# Altium schematic symbol library jl_lib.SchLib: 19 symbols
Pins are listed as number, name and electrical type; pins without a type are passive.

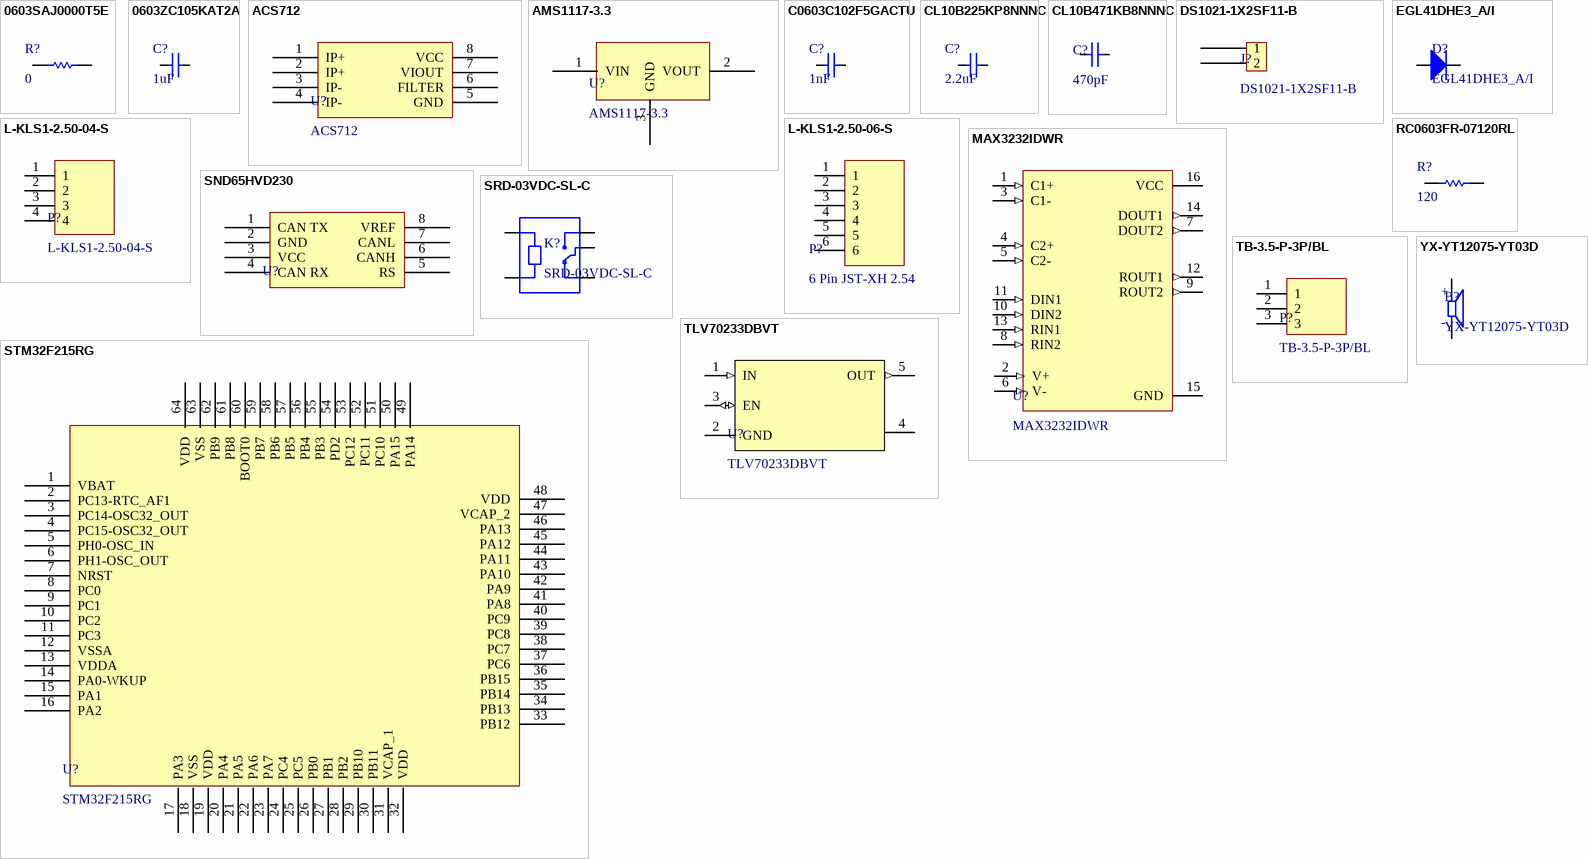
[diagram p0: symbols 0603SAJ0000T5E to YX-YT12075-YT03D]

## 0603SAJ0000T5E
designator R?, comment 0
Manufacturer: ROYALOHM; Tolerance: %5; Man Code: 0603SAJ0000T5E; Voltage: 75V; Component Type: Chip Resistor; Value: 0; Footprint: 0603
footprint RES-0603
pins: 1, 2

## 0603ZC105KAT2A
designator C?, comment 1uF
Manufacturer: AVX; Tolerance: %10; Man Code: 0603ZC105KAT2A; Voltage: 10V; Component Type: Ceramic Capacitor; Value: 1uF; Footprint: 0603
footprint CAP-0603
pins: 1, 2

## ACS712
designator U?
Manufacturer: Allegro; Supply Voltage: 5V; Component Type: Hall Effect Sensor; Footprint: SOIC-8; Man Code: ACS712
footprint SOIC-8
pins: 1 IP+, 2 IP+, 3 IP-, 4 IP-, 5 GND, 6 FILTER, 7 VIOUT, 8 VCC

## AMS1117-3.3
designator U?
Manufacturer: Monolithic; Componenet Type: Regulator; Output Voltage: 3.3V; Output Current: 1A; Footprint: SOT-223; Man Code: AMS1117-3.3
footprint SOT-223
pins: 1 VIN, 2 VOUT, 3 GND

## C0603C102F5GACTU
designator C?, comment 1nF
Manufacturer: KEMET; Tolerance: %1; Voltage: 50V; Man Code: C0603C102F5GACTU; Value: 1nF; Footprint: 0603; Component Type: Chip Capacitor
footprint CAP-0603
pins: 1, 2

## CL10B225KP8NNNC
designator C?, comment 2.2uF
Manufacturer: SAMSUNG; Man Code: CL10B225KP8NNNC; Voltage: 10V; Tolerance: %10; Value: 2.2uF; Footprint: 0603
footprint CAP-0603
pins: 1, 2

## CL10B471KB8NNNC
designator C?, comment 470pF
Manufacturer: Samsung; Man Code: CL10B471KB8NNNC; Voltage: 50V; Tolerance: %10; Component Type: Capacitor; Footprint: 0603; Value: 470pF
footprint CAP-0603
pins: 1, 2

## DS1021-1X2SF11-B
designator J?
Manufacturer: KLS Electronic; Number of Row: 1; Pitch: 2.54mm; Component Type: Header; Man Code: DS1021-1X2SF11-B; Number of Pins: 2
footprint 1x2 HEADER
pins: 1, 2

## EGL41DHE3_A/I
designator D?
Manufacturer: VISHAY; Current: 1A; Voltage: 200; Component Type: Diode; Man Code: EGL41DHE3_A/I; Footprint: DO-213AB
footprint DO-213AB
pins: 1 A, 2 K

## L-KLS1-2.50-04-S
designator P?
Manufacturer: KLS ELECTRONIC; Comopnent Type: Connector; Gender: Male; Pitch: 2.50mm; Man Code: L-KLS1-2.50-04-S; Mounting Type: THT; Number of pins: 4; Number of rows: 1
footprint 1x4 TUNIC CONNECTOR
pins: 1, 2, 3, 4

## L-KLS1-2.50-06-S
designator P?, comment 6 Pin JST-XH 2.54
Manufacturer: CONNFLY; Pin Number: 6; Pitch: 2.54mm; Component Type: Connector; Number of rows: 1; Man Code: 6 Pin JST-XH 2.54; Mounting Type: THT
footprint 1x6 2.50mm TUNIC CONNECTOR
pins: 1, 2, 3, 4, 5, 6

## MAX3232IDWR
designator U?
Manufacturer: Texas; Supply Voltage: 3V to 5V; Data Rate: 250kbps; Man Code: MAX3232IDWR; Footprint: SOIC-16; Component Type: IC Driver
footprint SOIC-16
pins: 1 C1+ (in), 2 V+ (in), 3 C1- (in), 4 C2+ (in), 5 C2- (in), 6 V- (in), 7 DOUT2 (out), 8 RIN2 (in), 9 ROUT2 (out), 10 DIN2 (in), 11 DIN1 (in), 12 ROUT1 (out), 13 RIN1 (in), 14 DOUT1 (out), 15 GND (power), 16 VCC (power)

## RC0603FR-07120RL
designator R?, comment 120
Manufacturer: YAGEO; Compnenet Type: Chip Resistor; Man Code: RC0603FR-07120RL; Tolerance: %1; Voltage: 75V; Value: 120; Footprint: 0603
footprint RES-0603
pins: 1, 2

## SND65HVD230
designator U?
Manufacturer: TI; Man Code: SN65HVD230; Footprint: SOIC-8; Component Type: CAN-BUS Transreceiver
footprint SOIC-8
pins: 1 CAN TX, 2 GND, 3 VCC, 4 CAN RX, 5 RS, 6 CANH, 7 CANL, 8 VREF

## SRD-03VDC-SL-C
designator K?
Manufacturer: Songle; Coil Voltage: 3V; Contact Rating Current: 10A; Component Type: Relay; Man Code: SRD-03VDC-SL-C
footprint RELAY
pins: A1, A2, COM, NC, NO

## STM32F215RG
designator U?
Manufacturer: STM; Speed: 120 mHz; Program Memory Size: 1 MB; Supply Voltage: 1.8V-3.6V; Number of Bits: 32; Number of I/O: 51; Component Type: Microcontroller; Man Code: STM32F215RG; Footprint: LQFP64
footprint LQFP64
pins: 1 VBAT, 2 PC13-RTC_AF1, 3 PC14-OSC32_OUT, 4 PC15-OSC32_OUT, 5 PH0-OSC_IN, 6 PH1-OSC_OUT, 7 NRST, 8 PC0, 9 PC1, 10 PC2, 11 PC3, 12 VSSA, 13 VDDA, 14 PA0-WKUP, 15 PA1, 16 PA2, 17 PA3, 18 VSS, 19 VDD, 20 PA4, 21 PA5, 22 PA6, 23 PA7, 24 PC4, 25 PC5, 26 PB0, 27 PB1, 28 PB2, 29 PB10, 30 PB11, 31 VCAP_1, 32 VDD, 33 PB12, 34 PB13, 35 PB14, 36 PB15, 37 PC6, 38 PC7, 39 PC8, 40 PC9, 41 PA8, 42 PA9, 43 PA10, 44 PA11, 45 PA12, 46 PA13, 47 VCAP_2, 48 VDD, 49 PA14, 50 PA15, 51 PC10, 52 PC11, 53 PC12, 54 PD2, 55 PB3, 56 PB4, 57 PB5, 58 PB6, 59 PB7, 60 BOOT0, 61 PB8, 62 PB9, 63 VSS, 64 VDD

## TB-3.5-P-3P/BL
designator P?
Manufacturer: NINIGI; Pitch: 3.5mm; Component Type: Connector; Man Code: TB-3.5-P-3P/BL; Number of Rows: 1; Number of Pins: 3; Mounting Type: THT
footprint 1x3 3.50MM TERMINAL BLOCK
pins: 1, 2, 3

## TLV70233DBVT
designator U?
Manufacturer: TEXAS; Current: 300mA; Voltage: 3.3V; Component Type: LDO; Man Code: TLV70233DBVT; Footprint: SOT23-5
footprint SOT23-5
pins: 1 IN (in), 2 GND (power), 3 EN (io), 4 (power), 5 OUT (out)

## YX-YT12075-YT03D
designator B?
Manufacturer: YXDZ; Voltage: 3V; Component Type: Buzzer; Man Code: YX-YT12075-YT03D; Mounting Type: THT; Dimensions(mm): 12.00X7.50
footprint BUZZER
pins: N, P
text: +; -